# Altium footprint library WREL_AD10_Ben.PcbLib: 135 footprints (part 4 of 9)
Each footprint in its own frame and in the unit in brackets; x right, y up, seen from the top. Pads: shape width x height; smd on the part's side, far side on the other; paste and mask are expansions set on the pad; w line width, h text height; cw(c..) or ccw(c..) is an arc to the next point about the centre after c.
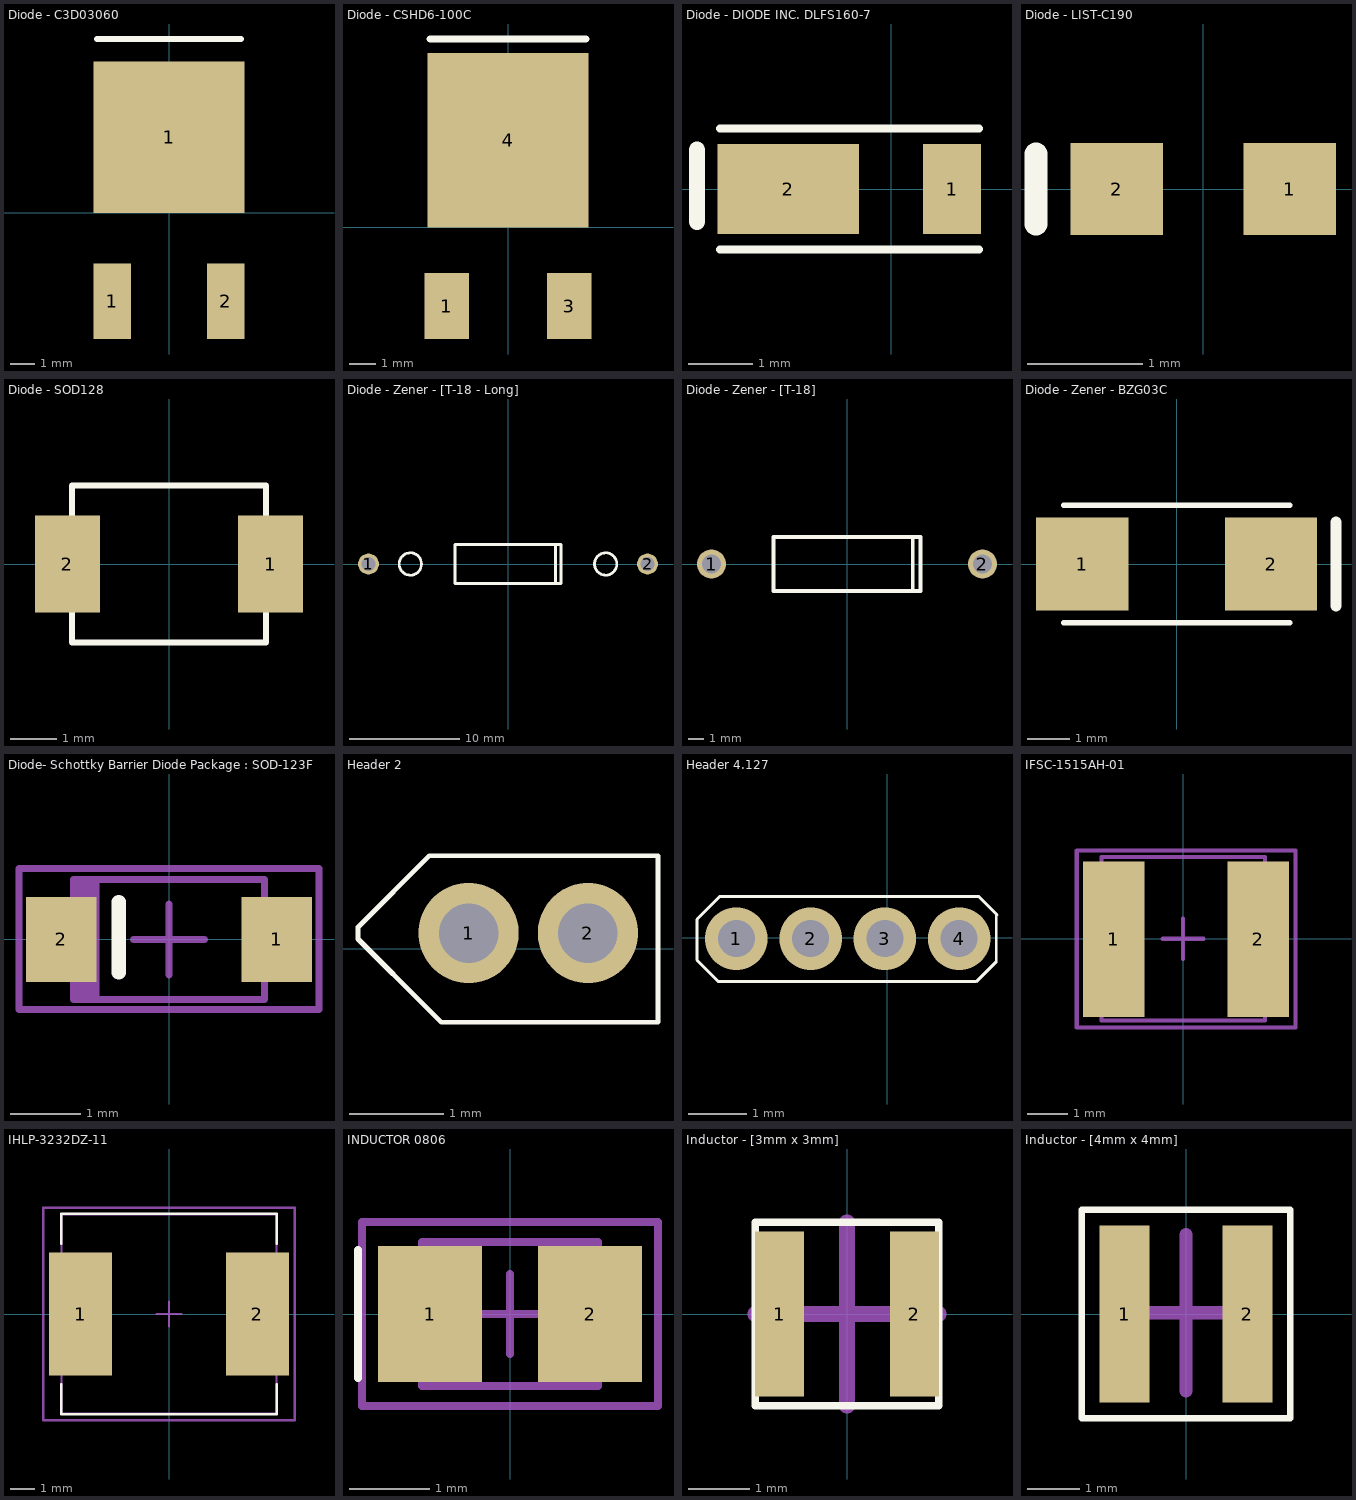
[diagram p3: the footprints below, top view; thin cyan lines are the x and y axes]

## Diode - C3D03060 [mil] "TO-252-2 (Case connected to Pin 1)"
height 93.7
pads (3):
  rect 60x120 smd: 1(-90,-140) 2(90,-140)
  rect 240x240 smd: 1(0,120)
Top Overlay:
  lines w10: -114.17,275.59 114.17,275.59
3D body: height 81, standoff 0, extent -133.49,-200.19 135.5,234.31

## Diode - CSHD6-100C [mm] "D-Pak (Similar to TO-252AA)"
height 2.38
pads (3):
  rect 1.65x2.45 smd: 1(-2.28,-2.92) 3(2.28,-2.92)
  rect 5.97x6.48 smd: 4(0,3.24)
Top Overlay:
  lines w0.254: -2.9,7 2.9,7
3D body: height 2.06, standoff 0, extent -3.416,-4.109 3.416,6.927

## Diode - DIODE INC. DLFS160-7 [mm] "Schottky Rect., 60V/1Amp"
height 0.98
pads (2):
  rect 0.9x1.4 smd: 1(0.95,0)
  rect 2.2x1.4 smd: 2(-1.6,0)
Top Overlay:
  lines w0.127: -2.667,-0.94 1.372,-0.94 ; -2.667,0.94 1.372,0.94
  lines w0.254: -3.023,-0.508 -3.023,0.61
3D body: height 0.2, standoff 0, extent 0.813,-0.533 1.067,0.483
3D body: height 0.2, standoff 0, extent -2.235,-0.508 -1.981,0.508
3D body: height 0.98, standoff 0.2, extent -1.981,-0.889 0.813,0.889

## Diode - LIST-C190 [mm] "Diode: Body 1.6 x 0.8 mm (LxW typ)"
height 0.8
pads (2):
  rect 0.8x0.8 smd: 1(0.75,0) 2(-0.75,0)
Top Overlay:
  lines w0.2: -1.448,-0.305 -1.448,0.305
3D body: height 0.8, standoff 0, extent -0.8,-0.406 0.8,0.406

## Diode - SOD128 [mm] "Diode: Body 1.6 x 0.8 mm (LxW typ)"
height 0.87
pads (2):
  rect 1.4x2.1 smd: 1(2.2,0) 2(-2.2,0)
Top Overlay:
  lines w0.127: -2.1,-1.7 -2.1,1.7 2.1,1.7 2.1,-1.7 -2.1,-1.7
3D body: height 1.11, standoff 0, extent -2.6,-1.325 2.6,1.375

## Diode - Zener - [T-18 - Long] [mm] "Through Hole,  ON Semiconductor 1N53xxB, CASE 017AA-01"
height 3.68
pads (2):
  round 1.905 hole 1.27: 1(-12.7,0) 2(12.7,0)
Top Overlay:
  circle w0.254: c-8.89,0 r1.016
  circle w0.254: c8.89,0 r1.016
  lines w0.254: 4.318,-1.778 4.318,1.778 ; -4.826,-1.778 4.826,-1.778 4.826,1.778 -4.826,1.778 -4.826,-1.778

## Diode - Zener - [T-18] [mm] "Through Hole,  ON Semiconductor 1N53xxB, CASE 017AA-01"
height 3.68
pads (2):
  round 1.905 hole 1.27: 1(-8.89,0) 2(8.89,0)
Top Overlay:
  lines w0.254: 4.318,-1.778 4.318,1.778 ; -4.826,-1.778 4.826,-1.778 4.826,1.778 -4.826,1.778 -4.826,-1.778

## Diode - Zener - BZG03C [mm] "Zener Diodes, BZG03C-Series, Vishay Semiconductor"
height 2.3
pads (2):
  rect 2.2x2.21 smd: 1(-2.25,0) 2(2.25,0)
Top Overlay:
  lines w0.127: -2.7,-1.4 2.7,-1.4 ; -2.7,1.4 2.7,1.4
  lines w0.254: 3.8,-1 3.8,1
3D body: height 2.3, standoff 0, extent -2.75,-1.4 2.75,1.4

## Diode- Schottky Barrier Diode Package : SOD-123F [mm] "DIODE SCHOTTKY 60V 2A MINI2"
height 0.85
pads (2):
  rect 1x1.2 smd: 1(1.525,0) 2(-1.525,0)
Top Overlay:
  lines w0.2: -0.711,-0.47 -0.711,0.53
Mechanical 13:
  rectangle: -1.35,-0.85 -0.987,0.85
  lines w0.1: -1.35,-0.85 1.35,-0.85 1.35,0.85 -1.35,0.85 -1.35,-0.85
Mechanical 15:
  lines w0.1: -0.5,0 0.5,0 ; 0,-0.5 0,0.5 ; -2.125,-0.991 2.125,-0.991 2.125,1.003 -2.125,1.003 -2.125,-0.991
3D body: height 0.85, standoff 0, extent -1.35,-0.85 1.35,0.85

## Header 2 [mil]
pads (2):
  round 42 smd: 1(-228,6.5) 2(-178,6.5)
via -228,6.5 diameter 42 hole 25
via -178,6.5 diameter 42 hole 25
Top Overlay:
  lines w2: -274.5,4 -244.5,-26 -239.5,-31 -148.5,-31 -148.5,39 -239.5,39 -244.5,39 -274.5,9 -274.5,4

## Header 4.127 [mil]
pads (4):
  round 42 smd: 1(-101.5,-0.5) 2(-51.5,-0.5) 3(-1.5,-0.5) 4(48.5,-0.5)
via -1.5,-0.5 diameter 42 hole 25
via 48.5,-0.5 diameter 42 hole 25
via -51.5,-0.5 diameter 42 hole 25
via -101.5,-0.5 diameter 42 hole 25
Top Overlay:
  lines w2: 73.5,15.5 73.5,-16 60,-29.5 -113.5,-29.5 -128,-15 -128,12.5 -112.5,28 61.5,28 74,15.5

## IFSC-1515AH-01 [mm] "IFSC-1515AH-01"
height 1.9
pads (2):
  rect 1.5x3.8 smd: 1(-1.702,-0.013) 2(1.841,-0.013)
Mechanical 13:
  lines w0.1: -2,-2 -2,2 2,2 2,-2 -2,-2
Mechanical 15:
  lines w0.1: -0.5,0 0.5,0 ; 0,-0.5 0,0.5 ; -2.603,-2.172 -2.603,2.159 2.75,2.159 2.75,-2.172 -2.603,-2.172
3D body: height 1.9, standoff 0, extent -2,-2 2,2

## IHLP-3232DZ-11 [mm] "IHLP-3232DZ-11"
height 4
pads (2):
  rect 2.6x5.1 smd: 1(-3.65,0) 2(3.65,0)
Top Overlay:
  lines w0.1: -4.45,-2.9 -4.45,-4.15 4.45,-4.15 4.45,-2.9 ; -4.45,2.9 -4.45,4.15 4.45,4.15 4.45,2.9
Mechanical 13:
  lines w0.1: -4.445,-4.13 4.445,-4.13 4.445,4.13 -4.445,4.13 -4.445,-4.13
Mechanical 15:
  lines w0.1: -0.5,0 0.5,0 ; 0,-0.5 0,0.5 ; -5.2,-4.4 5.2,-4.4 5.2,4.4 -5.2,4.4 -5.2,-4.4
3D body: height 4, standoff 0, extent -4.445,-4.13 4.445,4.13

## INDUCTOR 0806 [mm] "INDUCTOR 0806"
height 1.8
pads (2):
  rect 1.3x1.7 smd: 1(-1,0) 2(1,0)
Top Overlay:
  lines w0.1: -1.9,-0.8 -1.9,0.8
Mechanical 13:
  rectangle: -1.1,-0.9 -0.804,0.9
  lines w0.1: -1.1,-0.9 -1.1,0.9 1.1,0.9 1.1,-0.9 -1.1,-0.9
Mechanical 15:
  lines w0.1: -0.5,0 0.5,0 ; 0,-0.5 0,0.5 ; -1.85,-1.15 -1.85,1.15 1.85,1.15 1.85,-1.15 -1.85,-1.15
3D body: height 1.8, standoff 0, extent -1.1,-0.9 1.1,0.9

## Inductor - [3mm x 3mm] [mm] "Surface mount power inductor (3mm x 3mm)"
height 1.5
pads (2):
  rect 0.8x2.7 smd: 1(-1.1,0) 2(1.1,0)
Top Overlay:
  lines w0.127: -1.5,-1.5 -1.5,1.5 1.5,1.5 1.5,-1.5 -1.5,-1.5
Mechanical 15:
  lines w0.254: -1.5,0 1.5,0 ; 0,-1.5 0,1.5

## Inductor - [4mm x 4mm] [mil] "Coilcraft XFL4020 Shielded Power Inductors"
height 82.68
pads (2):
  rect 38x134 smd: 1(-46.5,0) 2(46.5,0)
Top Overlay:
  lines w5: -78.74,-78.74 78.74,-78.74 78.74,78.74 -78.74,78.74 -78.74,-78.74
Mechanical 15:
  lines w10: -59.06,1 59.06,1 ; 0,-58.06 0,60.06
3D body: height 82.68, standoff 0, extent -78.5,-78.5 78.5,78.5